# Altium schematic symbol library Diode.SchLib: 58 symbols
Pins are listed as number, name and electrical type; pins without a type are passive.

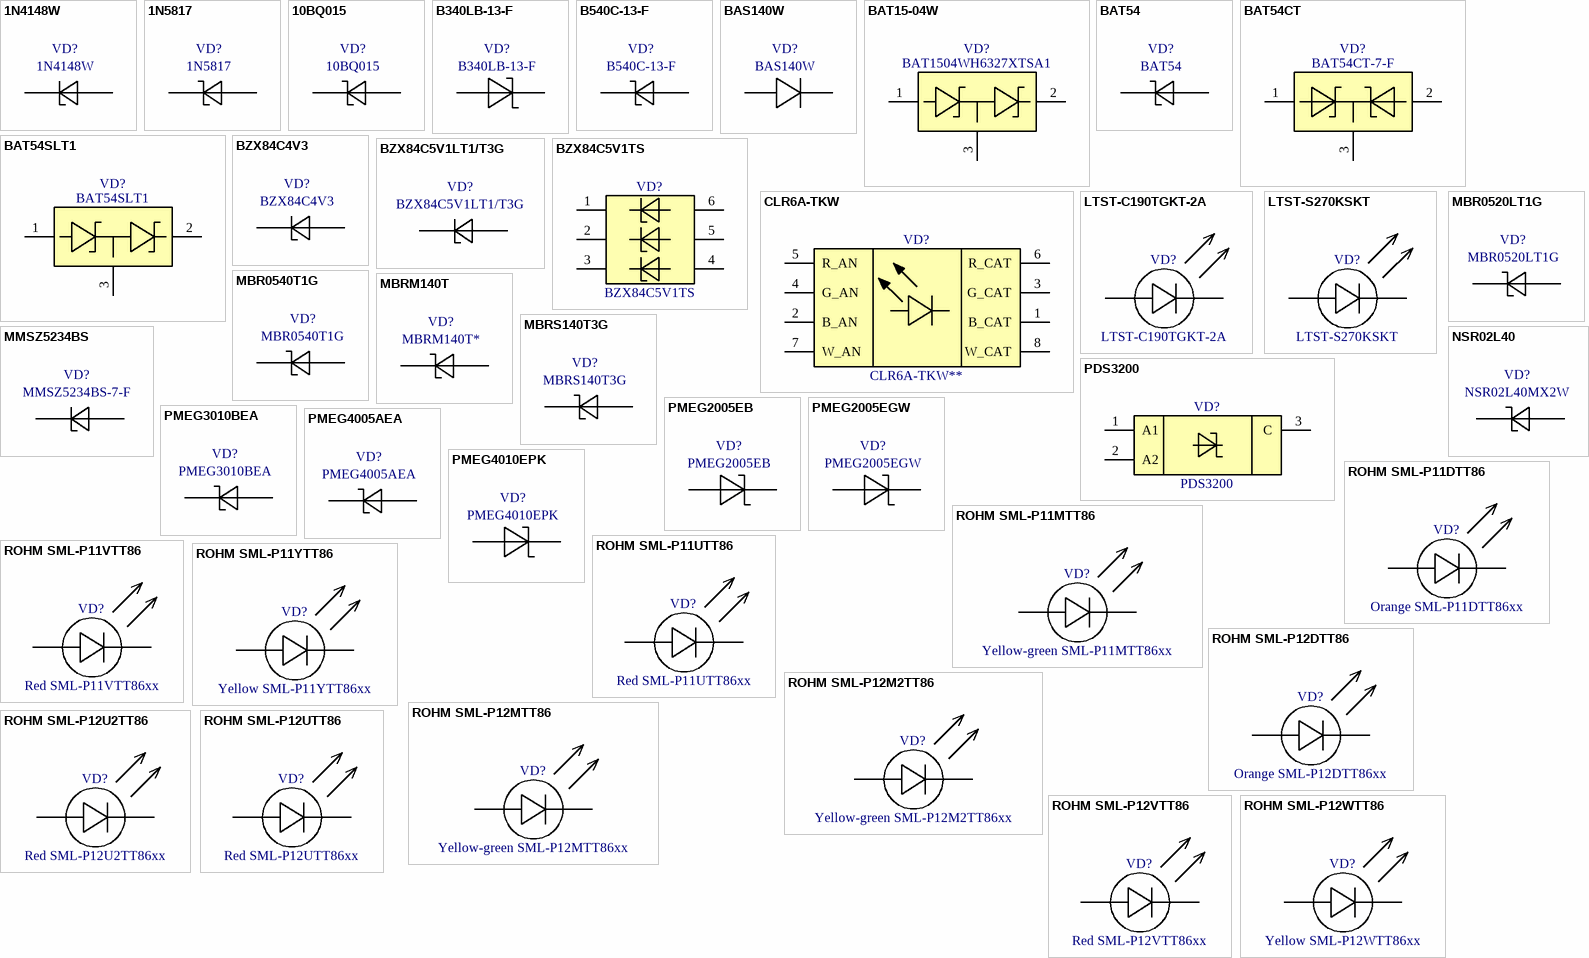
[diagram p0: symbols 1N4148W to ROHM SML-P12WTT86]

## 1N4148W
designator VD?
SURFACE MOUNT FAST SWITCHING DIODE; Manufacturer: Diodes Inc; PartNumber: 1N4148W; ComponentLink1Description: Product Page; ComponentLink1URL: https://www.diodes.com/part/view/1N4148W/; ComponentLink2Description: DataSheet; ComponentLink2URL: https://www.diodes.com/assets/Datasheets/BAV16W_1N4148W.pdf
footprint SOD370X155X135L32X57N (Diode, Small Outline Diode (SOD); 2.70 mm L X 1.55 mm W X 1.35 mm H body)
pins: A, C

## 1N5817
designator VD?
1.0A SCHOTTKY BARRIER RECTIFIER; Manufacturer: Diodes Inc; PartNumber: 1N5817; ComponentLink1Description: Product Page; ComponentLink1URL: https://www.diodes.com/part/view/1N5817/; ComponentLink2Description: DataSheet; ComponentLink2URL: https://www.diodes.com/assets/Datasheets/ds23001.pdf
footprint Axial-DIOAD1000W78L521D272 (Diode, Axial; 10.0 mm Pitch X 0.78 mm W 5.21 mm L X 2.72 mm Dia. body)
pins: A, C

## 10BQ015
designator VD?
Diode Schottky rectifier; Manufacturer: Vishay; PartNumber: 10BQ015
footprint DIOM530X355X240L103X197N (Diode, Molded Body; 5.30 mm L X 3.55 mm W X 2.40 mm H body)
pins: A, C

## B340LB-13-F
designator VD?
3.0A LOW VF SCHOTTKY BARRIER RECTIFIER; Manufacturer: Diodes Inc; PartNumber: B340LB-13-F; ComponentLink1Description: Product Page; ComponentLink1URL: https://www.diodes.com/part/view/B340LB; ComponentLink2Description: DataSheet; ComponentLink2URL: https://www.diodes.com/datasheet/download/B340LB.pdf
footprint DIOM529X362X250L114X208N (Diode, Molded Body; 4.315 mm L X 3.62 mm W X 2.50 mm H body)
pins: A, C

## B540C-13-F
designator VD?
5.0A SURFACE MOUNT SCHOTTKY BARRIER RECTIFIER; Manufacturer: Diodes Inc; PartNumber: B540C-13-F; ComponentLink1Description: Product Page; ComponentLink1URL: https://www.diodes.com/part/view/B540C/; ComponentLink2Description: DataSheet; ComponentLink2URL: https://www.diodes.com/assets/Datasheets/B520C-B560C.pdf
footprint DIOM794X590X250L114X296N (Diode, Molded Body; 6.855 mm L X 5.905 mm W X 2.50 mm H body)
pins: A, C

## BAS140W
designator VD?
General-purpose diode for high-speed switching; Manufacturer: Infineon; PartNumber: BAS140W; ComponentLink1Description: Product Page; ComponentLink1URL: https://www.infineon.com/cms/en/product/small-signal-transistors-diodes/diode/schottky-diodes/bas140w/; ComponentLink2Description: DataSheet; ComponentLink2URL: https://www.infineon.com/dgdl/Infineon-BAS40series.-DataSheet-v01_00-EN.pdf?fileId=5546d4626d66c2b1016d73f7e0bb20ca
footprint SOD250X130X110L45X32N (Diode, Small Outline Diode (SOD); 1.75 mm L X 1.30 mm W X 1.10 mm H body)
pins: A, C

## BAT15-04W
designator VD?, comment BAT1504WH6327XTSA1
Series silicon RF Schottky diode pair; Manufacturer: Infineon; PartNumber: BAT1504WH6327XTSA1; ComponentLink1Description: Product Page; ComponentLink1URL: https://www.infineon.com/cms/en/product/rf/rf-diode/rf-mixer-and-detector-schottky-diode/bat15-04w/; ComponentLink2Description: DataSheet; ComponentLink2URL: https://www.infineon.com/dgdl/Infineon-BAT15-04W-DS-v01_00-EN.pdf?fileId=5546d46265f064ff016638961e2b4e86
footprint SOT23-3P65_210X100L25X32N (Small Outline Transistor (SOT23), 0.65 mm pitch; 3 pin, 2.00 mm L X 1.25 mm W X 1.00 mm H body)
pins: 1 A, 2 C, 3 C/A

## BAT54
designator VD?
SURFACE-MOUNT SCHOTTKY BARRIER DIODE; Manufacturer: Diodes Inc; PartNumber: BAT54; ComponentLink1Description: Product Page; ComponentLink1URL: https://www.diodes.com/part/view/BAT54; ComponentLink2Description: DataSheet; ComponentLink2URL: https://www.diodes.com/assets/Datasheets/BAT54_A_C_S.pdf
footprint SOT23-3P95_240X115L40X40N (Small Outline Transistor (SOT23), 0.95 mm pitch; 3 pin, 2.90 mm L X 1.30 mm W X 1.15 mm H body)
pins: 1 A, 3 C

## BAT54CT
designator VD?, comment BAT54CT-7-F
SURFACE-MOUNT SCHOTTKY BARRIER DIODE, COMMON ANODE; Manufacturer: Diodes Inc; PartNumber: BAT54CT-7-F; ComponentLink1Description: Product Page; ComponentLink1URL: https://www.diodes.com/part/view/BAT54CT; ComponentLink2Description: DataSheet; ComponentLink2URL: https://www.diodes.com/datasheet/download/BAT54T.pdf
footprint SOT23-3P95_240X115L40X40N (Small Outline Transistor (SOT23), 0.95 mm pitch; 3 pin, 2.90 mm L X 1.30 mm W X 1.15 mm H body)
pins: 1 A, 2 C, 3 C/A

## BAT54SLT1
designator VD?
30 VOLT DUAL SCHOTTKY / BARRIER DIODES; Manufacturer: OnSemi; PartNumber: BAT54SLT1; ComponentLink1Description: Product Page; ComponentLink1URL: https://www.onsemi.com/products/discrete-power-modules/schottky-diodes-schottky-rectifiers/bat54sl; ComponentLink2Description: DataSheet; ComponentLink2URL: https://www.onsemi.com/pdf/datasheet/bat54slt1-d.pdf
footprint SOT95P237X111-3N (SOT23, 3-Leads, Body 2.92x2.37mm, Pitch 0.95mm, IPC Medium Density)
pins: 1 A, 2 C, 3 C/A

## BZX84C4V3
designator VD?
SURFACE MOUNT ZENER DIODE; Manufacturer: Diodes Inc; PartNumber: BZX84C4V3; ComponentLink1Description: Product Page; ComponentLink1URL: https://www.diodes.com/part/view/BZX84C4V3/; ComponentLink2Description: DataSheet; ComponentLink2URL: https://www.diodes.com/assets/Datasheets/ds18001.pdf
footprint SOT23-3P91_240X51L40X44N (Small Outline Transistor (SOT23), 0.915 mm pitch; 3 pin, 2.90 mm L X 1.30 mm W X 0.51 mm H body)
pins: 1 A, 3 C

## BZX84C5V1LT1/T3G
designator VD?
SMD Zener Diode, VZ1 5.1 V; Manufacturer: OnSemi; PartNumber: BZX84C5V1LT1/T3G; ComponentLink1Description: Product Page; ComponentLink1URL: https://www.onsemi.com/products/discrete-power-modules/zener-diodes/bzx84; ComponentLink2Description: DataSheet; ComponentLink2URL: https://www.onsemi.com/download/data-sheet/pdf/bzx84c2v4lt1-d.pdf
footprint SOT23-3P91_240X51L40X44N (Small Outline Transistor (SOT23), 0.915 mm pitch; 3 pin, 2.90 mm L X 1.30 mm W X 0.51 mm H body)
pins: 1 A, 3 C

## BZX84C5V1TS
designator VD?
5.1 Volt Zener Diode Array, 3 pos; Manufacturer: Diodes Inc; PartNumber: BZX84C5V1TS; ComponentLink1Description: Product Page; ComponentLink1URL: https://www.diodes.com/part/view/BZX84C5V1TS; ComponentLink2Description: DataSheet; ComponentLink2URL: https://www.diodes.com/datasheet/download/BZX84C5V1TS.pdf
footprint SOT65P210X100-6N (SOT23, 6-Leads, Body 2,00x2,10mm, Pitch 0,65mm, IPC Medium Density)
pins: 1 C1, 2 C2, 3 C3, 4 A3, 5 A2, 6 A1

## CLR6A-TKW
designator VD?, comment CLR6A-TKW**
PLCC8 4 IN 1 SMD LED; Manufacturer: Cree; PartNumber: CLR6A-TKW**; ComponentLink1Description: Product Page; ComponentLink1URL: https://www.cree-led.com/products/leds/hb/smd-multi/; ComponentLink2Description: DataSheet; ComponentLink2URL: https://assets.cree-led.com/a/ds/h/HB-CLR6A-TKW.pdf
footprint CLR6A-TKW (Cree CLR6A-TKW 4 in 1 SMD Len 4.00x4.00 mm)
pins: 1 B_CAT, 2 B_AN, 3 G_CAT, 4 G_AN, 5 R_AN, 6 R_CAT, 7 W_AN, 8 W_CAT

## LTST-C190TGKT-2A
designator VD?
LED Uni-Color Green 525nm 2-Pin Chip LED T/R; Manufacturer: Lite-On; I_Forward: 2 mA; V_Forward: 2.7 V; PartNumber: LTST-C190TGKT-2A; Color: Green; ComponentLink1Description: Product Page; ComponentLink1URL: https://optoelectronics.liteon.com/en-global/Led/LED-Component/Detail/471/0/0/1/96; ComponentLink2Description: DataSheet; ComponentLink2URL: https://optoelectronics.liteon.com/upload/download/DS22-2008-0134/LTST-C190TGKT-2A.PDF
footprint LTST-C190TGKT-2A Lite-On (Lite-ON 0603 Green)
pins: A, C
1 alternate drawing of the same symbol

## LTST-S270KSKT
designator VD?
LED Uni-Color Yellow 588nm 2-Pin Chip LED T/R; Manufacturer: Lite-On; I_Forward: 20 mA; V_Forward: 2 V; PartNumber: LTST-S270KSKT; Color: Yellow; ComponentLink1Description: Product Page; ComponentLink1URL: https://optoelectronics.liteon.com/en-global/Led/LED-Component/Detail/471/0/0/1/96; ComponentLink2Description: DataSheet; ComponentLink2URL: https://optoelectronics.liteon.com/upload/download/DS22-2000-211/LTST-S270KSKT.pdf
footprint LTST-S270KSKT Lite-On (Chip Diode, 2-Leads, Body 1.65x0.60mm, IPC Medium Density)
pins: A, C
1 alternate drawing of the same symbol

## MBR0520LT1G
designator VD?
SCHOTTKY BARRIER RECTIFIER 0.5 AMPERES, 20 VOLTS; Manufacturer: OnSemi; PartNumber: MBR0520LT1G; ComponentLink1Description: Product Page; ComponentLink1URL: https://www.onsemi.com/products/discrete-power-modules/schottky-diodes-schottky-rectifiers/mbr0520lt1g; ComponentLink2Description: DataSheet; ComponentLink2URL: https://www.onsemi.com/download/data-sheet/pdf/mbr0520lt1-d.pdf
footprint SOD371X160X135L25X38N (Diode, Small Outline Diode (SOD); 2.69 mm L X 1.60 mm W X 1.35 mm H body)
pins: A, C

## MBR0540T1G
designator VD?
Schottky Power Rectifier, / Surface Mount / 0.5 A, 40 V, SOD-123 Package; Manufacturer: OnSemi; PartNumber: MBR0540T1G; ComponentLink1Description: Product Page; ComponentLink1URL: https://www.onsemi.com/products/discrete-power-modules/schottky-diodes-schottky-rectifiers/MBR0540T1G; ComponentLink2Description: DataSheet; ComponentLink2URL: https://www.onsemi.com/download/data-sheet/pdf/mbr0540t1-d.pdf
footprint SOD371X160X135L25X61N (Diode, Small Outline Diode (SOD); 2.69 mm L X 1.60 mm W X 1.35 mm H body)
pins: A, C

## MBRM140T
designator VD?, comment MBRM140T*
Schottky Power Rectifier, Surface Mount, 1.0 A, 40 V; Manufacturer: OnSemi; PartNumber: MBRM140T*; ComponentLink1Description: Product Page; ComponentLink1URL: https://www.onsemi.com/products/discrete-power-modules/schottky-diodes-schottky-rectifiers/mbrm140; ComponentLink2Description: DataSheet; ComponentLink2URL: https://www.onsemi.com/pdf/datasheet/mbrm140-d.pdf
footprint CASE 457 ISSUE G (Onsemi CASE 457 ISSUE G)
pins: A, C

## MBRS140T3G
designator VD?
Schottky Power Rectifier, Surface Mount, 1.0 A, 40 V; Manufacturer: OnSemi; PartNumber: MBRS140T3G; ComponentLink1Description: Product Page; ComponentLink1URL: https://www.onsemi.com/products/discrete-power-modules/schottky-diodes-schottky-rectifiers/mbrs140; ComponentLink2Description: DataSheet; ComponentLink2URL: https://www.onsemi.com/download/data-sheet/pdf/mbrs140t3-d.pdf
footprint OnSemi SMB CASE 403A (Diode, Molded Body; 4.33 mm L X 3.625 mm W X 2.47 mm H body IPC DIOM540X362X247L118X208N)
pins: A, C

## MMSZ5234BS
designator VD?, comment MMSZ5234BS-7-F
SURFACE MOUNT ZENER DIODE, Vz 6.2V; Manufacturer: Diodes Inc; PartNumber: MMSZ5234BS-7-F; ComponentLink1Description: Product Page; ComponentLink1URL: https://www.diodes.com/part/view/MMSZ5234BS; ComponentLink2Description: DataSheet; ComponentLink2URL: https://www.diodes.com/datasheet/download/MMSZ5234BS.pdf
footprint SOD250X130X110L30X30N (Diode, Small Outline Diode (SOD); 1.70 mm L X 1.30 mm W X 1.10 mm H body)
pins: A, C

## NSR02L40
designator VD?, comment NSR02L40MX2W
40 V SCHOTTKY BARRIER DIODE; Manufacturer: OnSemi; PartNumber: NSR02L40MX2W; ComponentLink1Description: Product Page; ComponentLink1URL: https://www.onsemi.com/products/discrete-power-modules/schottky-diodes-schottky-rectifiers/nsr02l40
footprint ONSEMI 711BG ISSUE C (X2DFNW2 1.0x0.6, 0.65P)
pins: A, C

## PDS3200
designator VD?
3A HIGH VOLTAGE SCHOTTKY BARRIER RECTIFIER; Manufacturer: Diodes Inc; PartNumber: PDS3200; ComponentLink1Description: Product Page; ComponentLink1URL: https://www.diodes.com/part/view/PDS3200/; ComponentLink2Description: DataSheet; ComponentLink2URL: https://www.diodes.com/assets/Datasheets/ds30470.pdf
footprint PowerDI5 (Diodes Inc CASE PowerDI5)
pins: 1 A1, 2 A2, 3 C

## PMEG2005EB
designator VD?
Low VF MEGA Schottky barrier diode; Manufacturer: Nexperia; PartNumber: PMEG2005EB; ComponentLink1Description: Product Page; ComponentLink1URL: https://www.nexperia.com/products/diodes/automotive-diodes/automotive-schottky-diodes-and-rectifiers/automotive-medium-power-low-vf-schottky-rectifiers-single-200-ma/PMEG2005EB.html; ComponentLink2Description: DataSheet; ComponentLink2URL: https://assets.nexperia.com/documents/data-sheet/PMEG2005EB.pdf
footprint SODFL160X80X65L20X30N (Diode, Small Outline Diode Flat Lead (SODFL); 1.20 mm L X 0.80 mm W X 0.65 mm H body)
pins: A, C

## PMEG2005EGW
designator VD?
20 V, 0.5 A low VF MEGA Schottky barrier rectifier; Manufacturer: Nexperia; PartNumber: PMEG2005EGW; ComponentLink1Description: Product Page; ComponentLink1URL: https://www.nexperia.com/products/diodes/schottky-diodes-and-rectifiers/schottky-diodes-and-rectifiers-if-1-a/PMEG2005EGW.html; ComponentLink2Description: DataSheet; ComponentLink2URL: https://assets.nexperia.com/documents/data-sheet/PMEG2005EGW.pdf
footprint SOD360X160X130L30X62N (Diode, Small Outline Diode (SOD); 2.675 mm L X 1.60 mm W X 1.30 mm H body)
pins: A, C

## PMEG3010BEA
designator VD?
A low VF MEGA Schottky barrier rectifier, VR 30V, IF 1A; Manufacturer: Nexperia; PartNumber: PMEG3010BEA; ComponentLink1Description: Product Page; ComponentLink1URL: https://www.nexperia.com/product/PMEG3010BEA; ComponentLink2Description: DataSheet; ComponentLink2URL: https://assets.nexperia.com/documents/data-sheet/PMEG3010BEA.pdf
footprint SOD250X125X110L30X32N (Diode, Small Outline Diode (SOD); 1.70 mm L X 1.25 mm W X 1.10 mm H body)
pins: A, C

## PMEG4005AEA
designator VD?
A very low VF MEGA Schottky barrier rectifier, VR 40V, IF 0.5A; Manufacturer: Nexperia; PartNumber: PMEG4005AEA; ComponentLink1Description: Product Page; ComponentLink1URL: https://www.nexperia.com/product/PMEG4005AEA; ComponentLink2Description: DataSheet; ComponentLink2URL: https://assets.nexperia.com/documents/data-sheet/PMEG4005AEA.pdf
footprint SOD250X125X110L30X32N (Diode, Small Outline Diode (SOD); 1.70 mm L X 1.25 mm W X 1.10 mm H body)
pins: A, C

## PMEG4010EPK
designator VD?
40 V, 1 A low VF Schottky barrier rectifier; Manufacturer: Nexperia; PartNumber: PMEG4010EPK; ComponentLink1Description: Product Page; ComponentLink1URL: https://www.nexperia.com/product/PMEG4010EPK; ComponentLink2Description: DataSheet; ComponentLink2URL: https://assets.nexperia.com/documents/data-sheet/PMEG4010EPK.pdf
footprint NEXPERIA SOD1608 (Nexperia DFN1608D-2 (SOD1608))
pins: A, C

## ROHM SML-P11DTT86
designator VD?, comment Orange SML-P11DTT86xx
PICOLED™, Ultra-small and Ultra-thin, Orange Chip LED; Manufacturer: ROHM; I_Forward: 1 мА; V_Forward: 1,9 В; PartNumber: SML-P11DTT86xx; Color: Orange; ComponentLink1Description: Product Page; ComponentLink1URL: https://www.rohm.com/products/led/chip-leds-mono-color-type/standard/sml-p11dt_r_-product; Package: 0402; ComponentLink2Description: DataSheet; ComponentLink2URL: https://fscdn.rohm.com/en/products/databook/datasheet/opto/led/chip_mono/sml-p11dtt86(r)-e.pdf
footprint ROHM SML-P11DTT86 (ROHM LED 0402 Top View Orange (Code D) 1.0x0.6x0.25)
pins: A, C
1 alternate drawing of the same symbol

## ROHM SML-P11MTT86
designator VD?, comment Yellow-green SML-P11MTT86xx
PICOLED™, Ultra-small and Ultra-thin, Yellow-green Chip LED; Manufacturer: ROHM; I_Forward: 1 мА; V_Forward: 1,9 В; PartNumber: SML-P11MTT86xx; Color: Yellow-green; ComponentLink1Description: Product Page; ComponentLink1URL: https://www.rohm.com/products/led/chip-leds-mono-color-type/standard/sml-p11mt_r_-product; Package: 0402; ComponentLink2Description: DataSheet; ComponentLink2URL: https://fscdn.rohm.com/en/products/databook/datasheet/opto/led/chip_mono/sml-p11mtt86(r)-e.pdf
footprint ROHM SML-P11MTT86 (ROHM LED 0402 Top View Yellow-green (Code M) 1.0x0.6x0.25)
pins: A, C
1 alternate drawing of the same symbol

## ROHM SML-P11UTT86
designator VD?, comment Red SML-P11UTT86xx
PICOLED™, Ultra-small and Ultra-thin, Red Chip LED; Manufacturer: ROHM; I_Forward: 1 мА; V_Forward: 1,8 В; PartNumber: SML-P11UTT86xx; Color: Red; ComponentLink1Description: Product Page; ComponentLink1URL: https://www.rohm.com/products/led/chip-leds-mono-color-type/standard/sml-p11ut_r_-product; Package: 0402; ComponentLink2Description: DataSheet; ComponentLink2URL: https://fscdn.rohm.com/en/products/databook/datasheet/opto/led/chip_mono/sml-p11utt86(r)-e.pdf
footprint ROHM SML-P11UTT86 (ROHM LED 0402 Top View Red (Code U) 1.0x0.6x0.25)
pins: A, C
1 alternate drawing of the same symbol

## ROHM SML-P11VTT86
designator VD?, comment Red SML-P11VTT86xx
PICOLED™, Ultra-small and Ultra-thin, Red Chip LED; Manufacturer: ROHM; I_Forward: 1 мА; V_Forward: 1,8 В; PartNumber: SML-P11VTT86xx; Color: Red; ComponentLink1Description: Product Page; ComponentLink1URL: https://www.rohm.com/products/led/chip-leds-mono-color-type/standard/sml-p11vt_r_-product; Package: 0402; ComponentLink2Description: DataSheet; ComponentLink2URL: https://fscdn.rohm.com/en/products/databook/datasheet/opto/led/chip_mono/sml-p11vtt86(r)-e.pdf
footprint ROHM SML-P11VTT86 (ROHM LED 0402 Top View Red (Code V) 1.0x0.6x0.25)
pins: A, C
1 alternate drawing of the same symbol

## ROHM SML-P11YTT86
designator VD?, comment Yellow SML-P11YTT86xx
PICOLED™, Ultra-small and Ultra-thin, Yellow Chip LED; Manufacturer: ROHM; I_Forward: 1 мА; V_Forward: 1,9 В; PartNumber: SML-P11YTT86xx; Color: Yellow; ComponentLink1Description: Product Page; ComponentLink1URL: https://www.rohm.com/products/led/chip-leds-mono-color-type/standard/sml-p11yt_r_-product; Package: 0402; ComponentLink2Description: DataSheet; ComponentLink2URL: https://fscdn.rohm.com/en/products/databook/datasheet/opto/led/chip_mono/sml-p11ytt86(r)-e.pdf
footprint ROHM SML-P11YTT86 (ROHM LED 0402 Top View Yellow (Code Y) 1.0x0.6x0.25)
pins: A, C
1 alternate drawing of the same symbol

## ROHM SML-P12DTT86
designator VD?, comment Orange SML-P12DTT86xx
PICOLED™, Ultra-small and Ultra-thin, Orange Chip LED; Manufacturer: ROHM; I_Forward: 20 мА; V_Forward: 2,1 В; PartNumber: SML-P12DTT86xx; Color: Orange; ComponentLink1Description: Product Page; ComponentLink1URL: https://www.rohm.com/products/led/chip-leds-mono-color-type/standard/sml-p12dt_r_-product; Package: 0402; ComponentLink2Description: DataSheet; ComponentLink2URL: https://fscdn.rohm.com/en/products/databook/datasheet/opto/led/chip_mono/sml-p12dtt86(r)-e.pdf
footprint ROHM SML-P12DTT86 (ROHM LED 0402 Top View Orange (Code D) 1.0x0.6x0.25)
pins: A, C
1 alternate drawing of the same symbol

## ROHM SML-P12M2TT86
designator VD?, comment Yellow-green SML-P12M2TT86xx
PICOLED™, Ultra-small and Ultra-thin, Yellow-green Chip LED; Manufacturer: ROHM; I_Forward: 20 мА; V_Forward: 2,2 В; PartNumber: SML-P12M2TT86xx; Color: Yellow-green; ComponentLink1Description: Product Page; ComponentLink1URL: https://www.rohm.com/products/led/chip-leds-mono-color-type/standard/sml-p12m2t_r_-product; Package: 0402; ComponentLink2Description: DataSheet; ComponentLink2URL: https://fscdn.rohm.com/en/products/databook/datasheet/opto/led/chip_mono/sml-p12m2tt86(r)-e.pdf
footprint ROHM SML-P12M2TT86 (ROHM LED 0402 Top View Yellow-green (Code M2) 1.0x0.6x0.25)
pins: A, C
1 alternate drawing of the same symbol

## ROHM SML-P12MTT86
designator VD?, comment Yellow-green SML-P12MTT86xx
PICOLED™, Ultra-small and Ultra-thin, Yellow-green Chip LED; Manufacturer: ROHM; I_Forward: 20 мА; V_Forward: 2,2 В; PartNumber: SML-P12MTT86xx; Color: Yellow-green; ComponentLink1Description: Product Page; ComponentLink1URL: https://www.rohm.com/products/led/chip-leds-mono-color-type/standard/sml-p12mt_r_-product; Package: 0402; ComponentLink2Description: DataSheet; ComponentLink2URL: https://fscdn.rohm.com/en/products/databook/datasheet/opto/led/chip_mono/sml-p12mtt86(r)-e.pdf
footprint ROHM SML-P12MTT86 (ROHM LED 0402 Top View Yellow-green (Code M) 1.0x0.6x0.25)
pins: A, C
1 alternate drawing of the same symbol

## ROHM SML-P12U2TT86
designator VD?, comment Red SML-P12U2TT86xx
PICOLED™, Ultra-small and Ultra-thin, Red Chip LED; Manufacturer: ROHM; I_Forward: 20 мА; V_Forward: 2,1 В; PartNumber: SML-P12U2TT86xx; Color: Red; ComponentLink1Description: Product Page; ComponentLink1URL: https://www.rohm.com/products/led/chip-leds-mono-color-type/standard/sml-p12u2t_r_-product; Package: 0402; ComponentLink2Description: DataSheet; ComponentLink2URL: https://fscdn.rohm.com/en/products/databook/datasheet/opto/led/chip_mono/sml-p12u2tt86(r)-e.pdf
footprint ROHM SML-P12U2TT86 (ROHM LED 0402 Top View Red (Code U2) 1.0x0.6x0.25)
pins: A, C
1 alternate drawing of the same symbol

## ROHM SML-P12UTT86
designator VD?, comment Red SML-P12UTT86xx
PICOLED™, Ultra-small and Ultra-thin, Red Chip LED; Manufacturer: ROHM; I_Forward: 20 мА; V_Forward: 2 В; PartNumber: SML-P12UTT86xx; Color: Red; ComponentLink1Description: Product Page; ComponentLink1URL: https://www.rohm.com/products/led/chip-leds-mono-color-type/standard/sml-p12ut_r_-product; Package: 0402; ComponentLink2Description: DataSheet; ComponentLink2URL: https://fscdn.rohm.com/en/products/databook/datasheet/opto/led/chip_mono/sml-p12utt86(r)-e.pdf
footprint ROHM SML-P12UTT86 (ROHM LED 0402 Top View Red (Code U) 1.0x0.6x0.25)
pins: A, C
1 alternate drawing of the same symbol

## ROHM SML-P12VTT86
designator VD?, comment Red SML-P12VTT86xx
PICOLED™, Ultra-small and Ultra-thin, Red Chip LED; Manufacturer: ROHM; I_Forward: 20 мА; V_Forward: 2 В; PartNumber: SML-P12VTT86xx; Color: Red; ComponentLink1Description: Product Page; ComponentLink1URL: https://www.rohm.com/products/led/chip-leds-mono-color-type/standard/sml-p12vt_r_-product; Package: 0402; ComponentLink2Description: DataSheet; ComponentLink2URL: https://fscdn.rohm.com/en/products/databook/datasheet/opto/led/chip_mono/sml-p12vtt86(r)-e.pdf
footprint ROHM SML-P12VTT86 (ROHM LED 0402 Top View Red (Code V) 1.0x0.6x0.25)
pins: A, C
1 alternate drawing of the same symbol

## ROHM SML-P12WTT86
designator VD?, comment Yellow SML-P12WTT86xx
PICOLED™, Ultra-small and Ultra-thin, Yellow Chip LED; Manufacturer: ROHM; I_Forward: 20 мА; V_Forward: 2,1 В; PartNumber: SML-P12WTT86xx; Color: Yellow; ComponentLink1Description: Product Page; ComponentLink1URL: https://www.rohm.com/products/led/chip-leds-mono-color-type/standard/sml-p12wt_r_-product; Package: 0402; ComponentLink2Description: DataSheet; ComponentLink2URL: https://fscdn.rohm.com/en/products/databook/datasheet/opto/led/chip_mono/sml-p12wtt86(r)-e.pdf
footprint ROHM SML-P12WTT86 (ROHM LED 0402 Top View Yellow (Code W) 1.0x0.6x0.25)
pins: A, C
1 alternate drawing of the same symbol

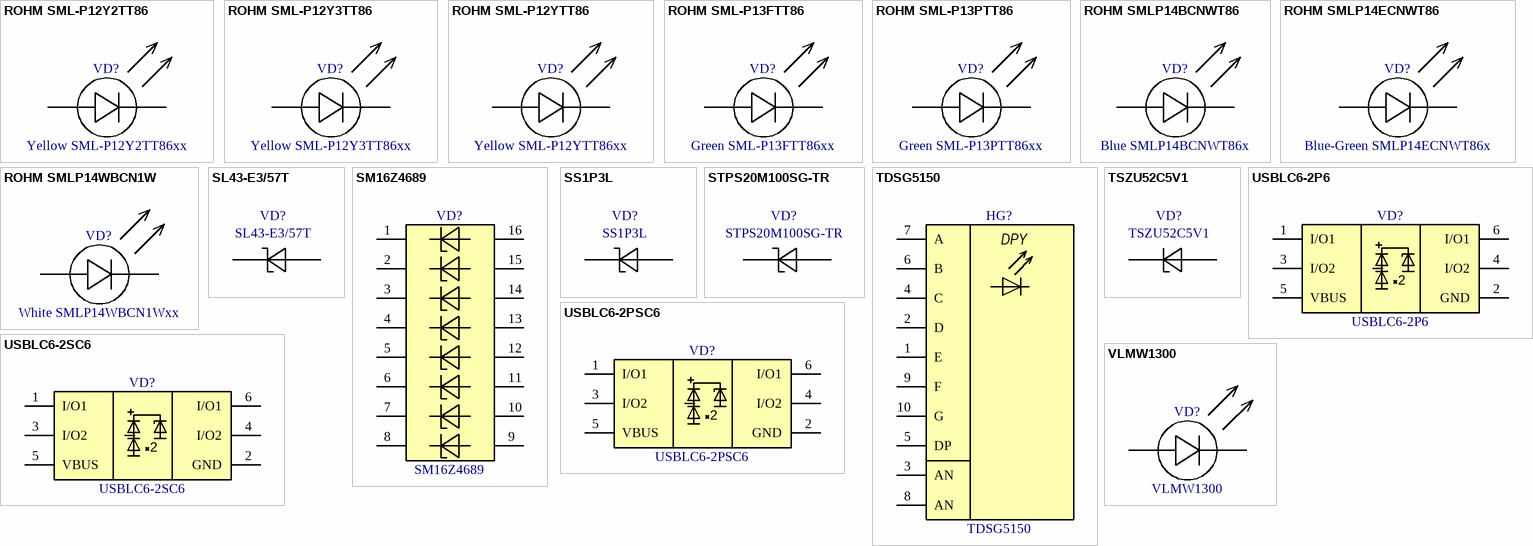
[diagram p1: symbols ROHM SML-P12Y2TT86 to VLMW1300]

## ROHM SML-P12Y2TT86
designator VD?, comment Yellow SML-P12Y2TT86xx
PICOLED™, Ultra-small and Ultra-thin, Yellow Chip LED; Manufacturer: ROHM; I_Forward: 20 мА; V_Forward: 2,1 В; PartNumber: SML-P12Y2TT86xx; Color: Yellow; ComponentLink1Description: Product Page; ComponentLink1URL: https://www.rohm.com/products/led/chip-leds-mono-color-type/standard/sml-p12y2t_r_-product; Package: 0402; ComponentLink2Description: DataSheet; ComponentLink2URL: https://fscdn.rohm.com/en/products/databook/datasheet/opto/led/chip_mono/sml-p12y2tt86(r)-e.pdf
footprint ROHM SML-P12Y2TT86 (ROHM LED 0402 Top View Yellow (Code Y2) 1.0x0.6x0.25)
pins: A, C
1 alternate drawing of the same symbol

## ROHM SML-P12Y3TT86
designator VD?, comment Yellow SML-P12Y3TT86xx
PICOLED™, Ultra-small and Ultra-thin, Yellow Chip LED; Manufacturer: ROHM; I_Forward: 20 мА; V_Forward: 2,1 В; PartNumber: SML-P12Y3TT86xx; Color: Yellow; ComponentLink1Description: Product Page; ComponentLink1URL: https://www.rohm.com/products/led/chip-leds-mono-color-type/standard/sml-p12y3t_r_-product; Package: 0402; ComponentLink2Description: DataSheet; ComponentLink2URL: https://fscdn.rohm.com/en/products/databook/datasheet/opto/led/chip_mono/sml-p12y3tt86(r)-e.pdf
footprint ROHM SML-P12Y3TT86 (ROHM LED 0402 Top View Yellow (Code Y3) 1.0x0.6x0.25)
pins: A, C
1 alternate drawing of the same symbol

## ROHM SML-P12YTT86
designator VD?, comment Yellow SML-P12YTT86xx
PICOLED™, Ultra-small and Ultra-thin, Yellow Chip LED; Manufacturer: ROHM; I_Forward: 20 мА; V_Forward: 2,1 В; PartNumber: SML-P12YTT86xx; Color: Yellow; ComponentLink1Description: Product Page; ComponentLink1URL: https://www.rohm.com/products/led/chip-leds-mono-color-type/standard/sml-p12yt_r_-product; Package: 0402; ComponentLink2Description: DataSheet; ComponentLink2URL: https://fscdn.rohm.com/en/products/databook/datasheet/opto/led/chip_mono/sml-p12ytt86(r)-e.pdf
footprint ROHM SML-P12YTT86 (ROHM LED 0402 Top View Yellow (Code Y) 1.0x0.6x0.25)
pins: A, C
1 alternate drawing of the same symbol

## ROHM SML-P13FTT86
designator VD?, comment Green SML-P13FTT86xx
PICOLED™, Ultra-small and Ultra-thin, Green Chip LED; Manufacturer: ROHM; I_Forward: 20 мА; V_Forward: 2,1 В; PartNumber: SML-P13FTT86xx; Color: Green; ComponentLink1Description: Product Page; ComponentLink1URL: https://www.rohm.com/products/led/chip-leds-mono-color-type/standard/sml-p13ft_r_-product; Package: 0402; ComponentLink2Description: DataSheet; ComponentLink2URL: https://fscdn.rohm.com/en/products/databook/datasheet/opto/led/chip_mono/sml-p13ftt86(r)-e.pdf
footprint ROHM SML-P13FTT86 (ROHM LED 0402 Top View Green (Code F) 1.0x0.6x0.25)
pins: A, C
1 alternate drawing of the same symbol

## ROHM SML-P13PTT86
designator VD?, comment Green SML-P13PTT86xx
PICOLED™, Ultra-small and Ultra-thin, Green Chip LED; Manufacturer: ROHM; I_Forward: 20 мА; V_Forward: 2,1 В; PartNumber: SML-P13PTT86xx; Color: Green; ComponentLink1Description: Product Page; ComponentLink1URL: https://www.rohm.com/products/led/chip-leds-mono-color-type/standard/sml-p13pt_r_-product; Package: 0402; ComponentLink2Description: DataSheet; ComponentLink2URL: https://fscdn.rohm.com/en/products/databook/datasheet/opto/led/chip_mono/sml-p13ptt86(r)-e.pdf
footprint ROHM SML-P13PTT86 (ROHM LED 0402 Top View Green (Code P) 1.0x0.6x0.25)
pins: A, C
1 alternate drawing of the same symbol

## ROHM SMLP14BCNWT86
designator VD?, comment Blue SMLP14BCNWT86x
PICOLED™, Ultra-small and Ultra-thin, High Brightness Blue Chip LED; Manufacturer: ROHM; I_Forward: 5 мА; V_Forward: 2,9 В; PartNumber: SMLP14BCNWT86x; Color: Blue; ComponentLink1Description: Product Page; ComponentLink1URL: https://www.rohm.com/products/led/chip-leds-mono-color-type/standard/smlp14bcnw-product; Package: 0402; ComponentLink2Description: DataSheet; ComponentLink2URL: https://fscdn.rohm.com/en/products/databook/datasheet/opto/led/chip_mono/smlp14bcnwt86-e.pdf
footprint ROHM SMLP14BCNWT86 (ROHM LED 0402 Top View Blue (Code B) 1.0x0.6x0.25)
pins: A, C
1 alternate drawing of the same symbol

## ROHM SMLP14ECNWT86
designator VD?, comment Blue-Green SMLP14ECNWT86x
PICOLED™, Ultra-small and Ultra-thin, High Brightness Green Chip LED; Manufacturer: ROHM; I_Forward: 10 мА; V_Forward: 3 В; PartNumber: SMLP14ECNWT86x; Color: Blue-Green; ComponentLink1Description: Product Page; ComponentLink1URL: https://www.rohm.com/products/led/chip-leds-mono-color-type/standard/smlp14ecnw-product; Package: 0402; ComponentLink2Description: DataSheet; ComponentLink2URL: https://fscdn.rohm.com/en/products/databook/datasheet/opto/led/chip_mono/smlp14ecnwt86-e.pdf
footprint ROHM SMLP14ECNWT86 (ROHM LED 0402 Top View Blue Green (Code EC) 1.0x0.6x0.25)
pins: A, C
1 alternate drawing of the same symbol

## ROHM SMLP14WBCN1W
designator VD?, comment White SMLP14WBCN1Wxx
PICOLED™, Ultra-small and Ultra-thin, High Brightness White Chip LED; Manufacturer: ROHM; I_Forward: 5 мА; V_Forward: 2,9 В; PartNumber: SMLP14WBCN1Wxx; Color: White; ComponentLink1Description: Product Page; ComponentLink1URL: https://www.rohm.com/products/led/chip-leds-mono-color-type/standard/smlp14wbcn1w-product; Package: 0402; ComponentLink2Description: DataSheet; ComponentLink2URL: https://fscdn.rohm.com/en/products/databook/datasheet/opto/led/chip_mono/smlp14wbcn1w1-e.pdf
footprint ROHM SMLP14BCNWT86 (ROHM LED 0402 Top View Blue (Code B) 1.0x0.6x0.25)
pins: A, C
1 alternate drawing of the same symbol

## SL43-E3/57T
designator VD?
SCHOTTKY BARRIER RECTIFIER 4 AMPERES, 30 VOLTS; Manufacturer: Vishay; PartNumber: SL43-E3/57T; ComponentLink1Description: Product Page; ComponentLink1URL: https://www.vishay.com/en/product/88742/
footprint DIOM794X590X262L114X300N (Diode, Molded Body; 6.855 mm L X 5.905 mm W X 2.62 mm H body)
pins: A, C

## SM16Z4689
designator VD?
5.1 Volt Zener Diode Array; Manufacturer: Microchip; PartNumber: SM16Z4689
footprint SOIC16P127_959X599X175L84X40N (Small Outline IC (SOIC), 1.27 mm pitch; 16 pin, 9.595 mm L X 3.91 mm W X 1.75 mm H body)
pins: 1, 2, 3, 4, 5, 6, 7, 8, 9, 10, 11, 12, 13, 14, 15, 16

## SS1P3L
designator VD?
Low VF High Current Density Surface-MountSchottky Barrier Rectifiers; Manufacturer: Vishay; PartNumber: SS1P3L; ComponentLink1Description: Product Page; ComponentLink1URL: https://www.vishay.com/en/product/88915/
footprint DO-220AA (Vishay DO-220AA)
pins: A, C

## STPS20M100SG-TR
designator VD?
100 V, 20 A 3-lead single Low Drop Power Schottky Rectifier; Manufacturer: STMicroelectronics; PartNumber: STPS20M100SG-TR; ComponentLink1Description: Product Page; ComponentLink1URL: https://www.st.com/en/diodes-and-rectifiers/stps20m100s.html; ComponentLink2Description: DataSheet; ComponentLink2URL: https://www.st.com/resource/en/datasheet/stps20m100s.pdf
footprint DPAK254P1542X460-3N (D2-PAK, 3-Pads, Body 7,78x8,64mm (max), IPC Medium Density)
pins: 1, 3 A, 4 C

## TDSG5150
designator HG?
Standard 7-Segment Display 13 mm, Green, Common anode; Manufacturer: Vishay; Face: Grey; PartNumber: TDSG5150; Color: Green; ComponentLink1Description: Product Page; ComponentLink1URL: https://www.vishay.com/en/product/83126/; ComponentLink2Description: DataSheet; ComponentLink2URL: https://www.vishay.com/docs/83126/tdsx51x0.pdf
footprint VISHAY TDSG5150 (VISHAY 7-digit display 13mm, Face Grey, Color Green)
pins: 1 E, 2 D, 3 AN, 4 C, 5 DP, 6 B, 7 A, 8 AN, 9 F, 10 G
1 alternate drawing of the same symbol
text: DPY

## TSZU52C5V1
designator VD?
SMD Zener Diode; Manufacturer: Taiwan Semiconductor; PartNumber: TSZU52C5V1; ComponentLink1Description: Product Page; ComponentLink1URL: https://www.taiwansemi.com/en/products/details/TSZU52C5V1; ComponentLink2Description: DataSheet; ComponentLink2URL: https://www.taiwansemi.com/assets/uploads/datasheet/TSZU52C2V0%20SERIES_G2009.pdf
footprint DIOC170X90X85L45N (Diode, Chip; 1.70 mm L X 0.90 mm W X 0.85 mm H body)
pins: A, C

## USBLC6-2P6
designator VD?
Very low capacitance ESD protection USB 2.0, SOT-666; Manufacturer: STMicroelectronics; PartNumber: USBLC6-2P6; ComponentLink1Description: Product Page; ComponentLink1URL: https://www.st.com/en/protections-and-emi-filters/usblc6-2.html; ComponentLink2Description: DataSheet; ComponentLink2URL: https://www.st.com/resource/en/datasheet/usblc6-2.pdf
footprint STM SOT-666 (Diode, Small Outline Flat Lead (SOFL), 0.50 mm pitch; 6 pin, 1.60 mm L X 1.20 mm W X 0.62 mm H body)
pins: 1 I/O1, 2 GND, 3 I/O2, 4 I/O2, 5 VBUS, 6 I/O1

## USBLC6-2PSC6
designator VD?
Very low capacitance ESD protection USB 2.0, SOT-23-6L; Manufacturer: STMicroelectronics; PartNumber: USBLC6-2PSC6; ComponentLink1Description: Product Page; ComponentLink1URL: https://www.st.com/en/protections-and-emi-filters/usblc6-2.html; ComponentLink2Description: DataSheet; ComponentLink2URL: https://www.st.com/resource/en/datasheet/usblc6-2.pdf
footprint SOT23-6P95_280X145L45X40N (Small Outline Transistor (SOT23), 0.95 mm pitch; 6 pin, 2.925 mm L X 1.625 mm W X 1.45 mm H body)
pins: 1 I/O1, 2 GND, 3 I/O2, 4 I/O2, 5 VBUS, 6 I/O1

## USBLC6-2SC6
designator VD?
Very low capacitance ESD protection USB 2.0, SOT-23-6L; Manufacturer: STMicroelectronics; PartNumber: USBLC6-2SC6; ComponentLink1Description: Product Page; ComponentLink1URL: https://www.st.com/en/protections-and-emi-filters/usblc6-2.html; ComponentLink2Description: DataSheet; ComponentLink2URL: https://www.st.com/resource/en/datasheet/usblc6-2.pdf
footprint SOT23-6P95_280X145L45X40N (Small Outline Transistor (SOT23), 0.95 mm pitch; 6 pin, 2.925 mm L X 1.625 mm W X 1.45 mm H body)
pins: 1 I/O1, 2 GND, 3 I/O2, 4 I/O2, 5 VBUS, 6 I/O1

## VLMW1300
designator VD?
Highbright 0603 ChipLED, White; Manufacturer: Vishay; I_Forward: 5 mA; V_Forward: 2.9 V; PartNumber: VLMW1300; Color: White; ComponentLink1Description: Product Page; ComponentLink1URL: https://www.vishay.com/en/product/82435/; ComponentLink2Description: DataSheet; ComponentLink2URL: https://www.vishay.com/docs/82435/vlmw1300.pdf
footprint VISHAY ChipLED SMD0603 (Vishay LED SMD0603 White)
pins: A, C